# EAGLE library part 23* (library ElevenDroids - ICs)
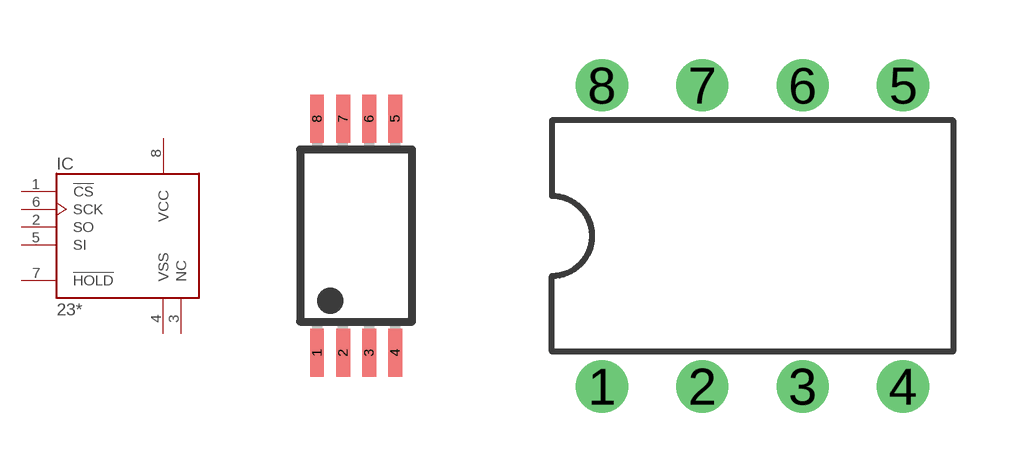
[diagram p3: symbol with the pads of TSSOP8; footprints TSSOP8, DIL08]

Designator prefix IC

## 23A640ST, 23K640ST  [TSSOP8]
1  !CS  in
2  SO  out
3  NC  nc
4  VSS  pwr
5  SI  in
6  SCK  in
7  !HOLD
8  VCC  pwr

## 23A640P, 23K640P  [DIL08]
Pads as for TSSOP8

## 23A640SN, 23K640SN  [SO08]
Pads as for TSSOP8

## Footprint TSSOP8 (pad centres in mm)
Thin Shrink Small Outline Plastic 8 3 x 4.4 mm
smd 0.35 x 1.2: 1 -0.975,-2.925; 2 -0.325,-2.925; 3 0.325,-2.925; 4 0.975,-2.925; 5 0.975,2.925; 6 0.325,2.925; 7 -0.325,2.925; 8 -0.975,2.925

## Footprint DIL08 (pad centres in mm)
Dual In Line Package
drill 0.813 pad 1.27: 1 -3.81,-3.81; 2 -1.27,-3.81; 3 1.27,-3.81; 4 3.81,-3.81; 5 3.81,3.81; 6 1.27,3.81; 7 -1.27,3.81; 8 -3.81,3.81

## Footprint SO08 (pad centres in mm)
Small Outline Package 8 NS Package M08A
smd 0.6 x 2.2: 1 -1.905,-2.6; 2 -0.635,-2.6; 3 0.635,-2.6; 4 1.905,-2.6; 5 1.905,2.6; 6 0.635,2.6; 7 -0.635,2.6; 8 -1.905,2.6